# EAGLE library part LT1763 (library linear-technology)
LDO REGULATOR 500mA, Low Noise, Micropower
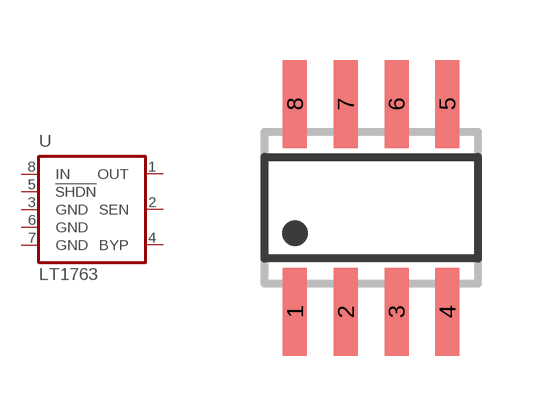
[diagram p38: symbol with the pads of SO08; footprint SO08]

Designator prefix U

## LT1763  [SO08]
1  OUT  pwr
2  SEN  pas
3  GND  pwr
4  BYP  pas
5  !SHDN!  in
6  GND  pwr
7  GND  pwr
8  IN  pwr

## Footprint SO08 (pad centres in mm)
SMALL OUTLINE INTEGRATED CIRCUIT body 3.9 mm/JEDEC MS-012AA
smd 0.6 x 2.2: 1 -1.905,-2.6; 2 -0.635,-2.6; 3 0.635,-2.6; 4 1.905,-2.6; 5 1.905,2.6; 6 0.635,2.6; 7 -0.635,2.6; 8 -1.905,2.6